# EAGLE library part HDR100-7 (library _RoweTel)
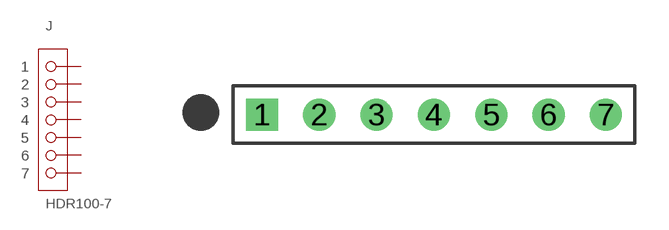
[diagram p84: symbol with the pads of HDR100-7; footprint HDR100-7]

Designator prefix J

## HDR100-7  [HDR100-7]
1  1
2  2
3  3
4  4
5  5
6  6
7  7

## Footprint HDR100-7 (pad centres in mm)
drill 0.8 pad 1.422 square: 1 0,0
drill 0.8 pad 1.422: 2 2.54,0; 3 5.08,0; 4 7.62,0; 5 10.16,0; 6 12.7,0; 7 15.24,0